# Altium footprint library 专用A.PcbLib: 94 footprints (part 6 of 6)
Each footprint in its own frame and in the unit in brackets; x right, y up, seen from the top. Pads: shape width x height; smd on the part's side, far side on the other; paste and mask are expansions set on the pad; w line width, h text height; cw(c..) or ccw(c..) is an arc to the next point about the centre after c.
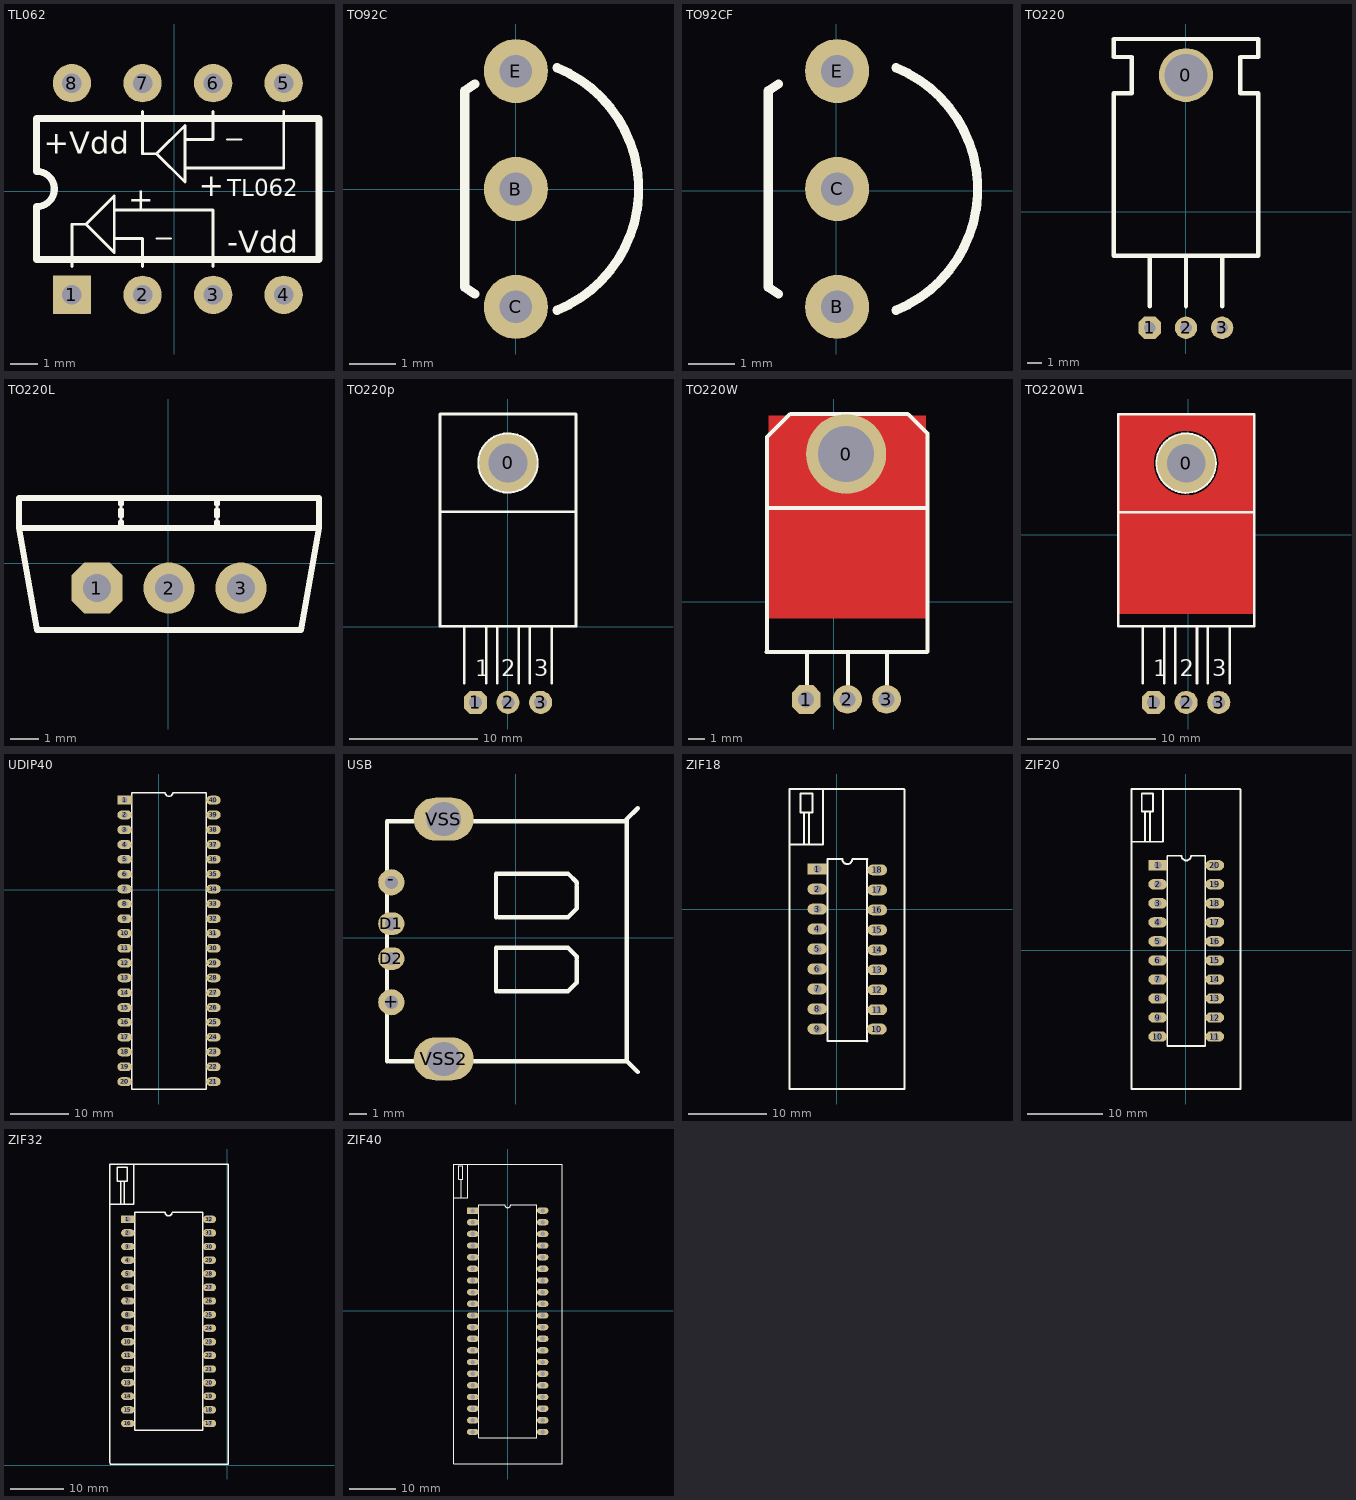
[diagram p5: the footprints below, top view; thin cyan lines are the x and y axes]

## TL062 [mm]
pads (8):
  rect 1.38x1.38 hole 0.7: 1(-3.676,-3.723)
  round 1.38 hole 0.7: 2(-1.136,-3.723) 3(1.404,-3.723) 4(3.944,-3.723) 5(3.944,3.897) 6(1.404,3.897) 7(-1.136,3.897) 8(-3.676,3.897)
TopOverlay:
  lines w0.081: -0.628,-1.691 -0.12,-1.691 ; 1.912,1.865 2.42,1.865
  lines w0.103: -3.676,-2.707 -3.676,-1.183 -3.168,-1.183 ; -2.152,-1.691 -1.136,-1.691 -1.136,-2.707 ; -2.152,-0.675 1.404,-0.675 1.404,-2.707 ; -1.136,2.881 -1.136,1.357 -0.628,1.357 ; 0.388,0.849 3.944,0.849 3.944,2.881 ; 0.388,1.865 1.404,1.865 1.404,2.881 ; -3.168,-1.183 -2.152,-2.199 -2.152,-0.167 -3.168,-1.183 ; -0.628,1.357 0.388,0.341 0.388,2.373 -0.628,1.357
  lines w0.254: -4.946,-2.453 -4.946,-0.548 ccw(c-4.946,0.087) -4.946,0.722 -4.946,2.627 5.214,2.627 5.214,-2.453 -4.946,-2.453
  text "TL062" at 1.912,-0.167 h0.6
  text "+" at 0.896,-0.167 h0.8
  text "+" at -1.644,-0.675 h0.8
  text "+Vdd" at -4.692,1.357 h0.8
  text "-Vdd" at 1.912,-2.199 h0.8

## TO92C [mm]
pads (3):
  round 1.38 hole 0.7: B(0,0) C(0,-2.54) E(0,2.54)
TopOverlay:
  lines w0.2: -0.882,-2.263 -1.101,-2.117 -1.101,2.117 -0.882,2.263 ; 0.885,-2.61 ccw(c-0.169,0) 0.885,2.61

## TO92CF [mm]
pads (3):
  round 1.38 hole 0.7: B(0.02,-2.5) C(0.02,0.04) E(0.02,2.58)
TopOverlay:
  lines w0.2: -1.243,-2.223 -1.462,-2.077 -1.462,2.157 -1.243,2.303 ; 1.286,-2.57 ccw(c0.232,0.04) 1.286,2.65

## TO220 [mil]
pads (4):
  round 149.61 hole 118.11: 0(0.87,378.82)
  oct 62x62 hole 32: 1(-99.13,-321.18)
  round 62 hole 32: 2(0.87,-321.18) 3(100.87,-321.18)
TopOverlay:
  lines w12: -99.13,-261.18 -99.13,-121.18 ; 0.87,-261.18 0.87,-121.18 ; 100.87,-261.18 100.87,-121.18 ; -199.13,-121.18 200.87,-121.18 200.87,328.82 150.87,328.82 150.87,428.82 200.87,428.82 200.87,478.82 -199.13,478.82 -199.13,428.82 -149.13,428.82 -149.13,328.82 -199.13,328.82 -199.13,-121.18

## TO220L [mm]
pads (3):
  oct 1.8x1.8 hole 1: 1(-2.514,-0.876)
  round 1.8 hole 1: 2(0.026,-0.876) 3(2.566,-0.876)
TopOverlay:
  lines w0.2: -1.667,1.241 -1.667,1.452 ; -1.667,1.664 -1.667,1.876 ; -1.667,2.087 -1.667,2.299 ; 1.719,1.241 1.719,1.452 ; 1.719,1.664 1.719,1.876 ; 1.719,2.087 1.719,2.299 ; -5.266,1.241 -5.266,2.299 5.318,2.299 5.318,1.241 ; -5.266,1.241 -4.631,-2.358 4.683,-2.358 5.318,1.241 ; -5.266,1.241 5.318,1.241

## TO220p [mm]
pads (4):
  round 4.5 hole 3: 0(0.026,12.739)
  oct 1.8x1.8 hole 1: 1(-2.514,-5.888)
  round 1.8 hole 1: 2(0.026,-5.888) 3(2.566,-5.888)
TopOverlay:
  circle w0.203: c0.026,12.739 r2.286
  lines w0.2: -5.266,8.929 5.318,8.929 ; -3.361,-4.406 -3.361,0.039 ; -1.667,-4.406 -1.667,0.039 ; -0.821,-4.406 -0.821,0.039 ; 0.873,-4.406 0.873,0.039 ; 1.719,-4.406 1.719,0.039 ; 3.413,-4.406 3.413,0.039 ; -5.266,0.039 -5.266,16.549 5.318,16.549 5.318,0.039 -5.266,0.039
  text "3" at 2.058,-3.856 h1.27
  text "2" at -0.482,-3.856 h1.27
  text "1" at -2.514,-3.856 h1.27

## TO220W [mm]
pads (4):
  round 5 hole 3.5: 0(0.78,9.22)
  oct 1.8x1.8 hole 1: 1(-1.72,-6.12)
  round 1.8 hole 1: 2(0.86,-6.1) 3(3.3,-6.1)
TopLayer:
  rectangle: -4.08,-1.04 5.76,11.64
TopOverlay:
  lines w0.254: -4.2,-3.14 5.84,-3.14 ; -4.18,-3.08 -4.18,9.9 ; -4.18,5.86 5.84,5.86 ; -4.18,9.78 -4.18,10.28 ; -4.14,10.3 -2.76,11.68 ; -2.68,11.72 4.6,11.72 ; -1.66,-5.7 -1.66,-3.16 ; 0.9,-5.78 0.9,-3.2 ; 3.34,-5.72 3.34,-3.2 ; 4.7,11.66 5.86,10.5 5.86,9.72 ; 5.86,-3.12 5.86,9.78
TopPaste:
  rectangle: -4.06,-0.96 5.72,11.54

## TO220W1 [mm]
pads (4):
  round 4.5 hole 3: 0(-0.177,5.576)
  oct 1.8x1.8 hole 1: 1(-2.717,-13.051)
  round 1.8 hole 1: 2(-0.177,-13.051) 3(2.363,-13.051)
TopLayer:
  circle w0.16: c-0.177,5.576 r2.584
  lines w0.16: -5.486,-6.04 5.08,-6.04 ; -5.486,-5.88 5.08,-5.88 ; -5.486,-5.72 5.08,-5.72 ; -5.486,-5.56 5.08,-5.56 ; -5.486,-5.4 5.08,-5.4 ; -5.486,-5.24 5.08,-5.24 ; -5.486,-5.08 5.08,-5.08 ; -5.486,-4.92 5.08,-4.92 ; -5.486,-4.76 5.08,-4.76 ; -5.486,-4.6 5.08,-4.6 ; -5.486,-4.44 5.08,-4.44 ; -5.486,-4.28 5.08,-4.28 ; -5.486,-4.12 5.08,-4.12 ; -5.486,-3.96 5.08,-3.96 ; -5.486,-3.8 5.08,-3.8 ; -5.486,-3.64 5.08,-3.64 ; -5.486,-3.48 5.08,-3.48 ; -5.486,-3.32 5.08,-3.32 ; -5.486,-3.16 5.08,-3.16 ; -5.486,-3 5.08,-3 ; -5.486,-2.84 5.08,-2.84 ; -5.486,-2.68 5.08,-2.68 ; -5.486,-2.52 5.08,-2.52 ; -5.486,-2.36 5.08,-2.36 ; -5.486,-2.2 5.08,-2.2 ; -5.486,-2.04 5.08,-2.04 ; -5.486,-1.88 5.08,-1.88 ; -5.486,-1.72 5.08,-1.72 ; -5.486,-1.56 5.08,-1.56 ; -5.486,-1.4 5.08,-1.4 ; -5.486,-1.24 5.08,-1.24 ; -5.486,-1.08 5.08,-1.08 ; -5.486,-0.92 5.08,-0.92 ; -5.486,-0.76 5.08,-0.76 ; -5.486,-0.6 5.08,-0.6 ; -5.486,-0.44 5.08,-0.44 ; -5.486,-0.28 5.08,-0.28 ; -5.486,-0.12 5.08,-0.12 ; -5.486,0.04 5.08,0.04 ; -5.486,0.2 5.08,0.2 ; -5.486,0.36 5.08,0.36 ; -5.486,0.52 5.08,0.52 ; -5.486,0.68 5.08,0.68 ; -5.486,0.84 5.08,0.84 ; -5.486,1 5.08,1 ; -5.486,1.16 5.08,1.16 ; -5.486,1.32 5.08,1.32 ; -5.486,1.48 5.08,1.48 ; -5.486,1.64 5.08,1.64 ; -5.486,1.8 5.08,1.8 ; -5.486,1.96 5.08,1.96 ; -5.486,2.12 5.08,2.12 ; -5.486,2.28 5.08,2.28 ; -5.486,2.44 5.08,2.44 ; -5.486,2.6 5.08,2.6 ; -5.486,2.76 5.08,2.76 ; -5.486,2.92 5.08,2.92 ; -5.486,3.08 -0.846,3.08 ; -5.486,3.24 -1.282,3.24 ; -5.486,3.4 -1.571,3.4 ; -5.486,3.56 -1.794,3.56 ; -5.486,3.72 -1.975,3.72 ; -5.486,3.88 -2.127,3.88 ; -5.486,4.04 -2.255,4.04 ; -5.486,4.2 -2.364,4.2 ; -5.486,4.36 -2.457,4.36 ; -5.486,4.52 -2.536,4.52 ; -5.486,4.68 -2.601,4.68 ; -5.486,4.84 -2.654,4.84 ; -5.486,5 -2.696,5 ; -5.486,5.16 -2.728,5.16 ; -5.486,5.32 -2.748,5.32 ; -5.486,5.48 -2.759,5.48 ; -5.486,5.64 -2.76,5.64 ; -5.486,5.8 -2.751,5.8 ; -5.486,5.96 -2.732,5.96 ; -5.486,6.12 -2.703,6.12 ; -5.486,6.28 -2.663,6.28 ; -5.486,6.44 -2.612,6.44 ; -5.486,6.6 -2.55,6.6 ; -5.486,6.76 -2.474,6.76 ; -5.486,6.92 -2.384,6.92 ; -5.486,7.08 -2.278,7.08 ; -5.486,7.24 -2.154,7.24 ; -5.486,7.4 -2.007,7.4 ; -5.486,7.56 -1.833,7.56 ; -5.486,7.72 -1.619,7.72 ; -5.486,7.88 -1.347,7.88 ; -5.486,8.04 -0.955,8.04 ; -5.486,8.2 5.08,8.2 ; -5.486,8.36 5.08,8.36 ; -5.486,8.52 5.08,8.52 ; -5.486,8.68 5.08,8.68 ; -5.486,8.84 5.08,8.84 ; -5.486,9 5.08,9 ; -5.486,9.16 5.08,9.16 ; -5.486,9.32 5.08,9.32 ; -5.484,-6.096 -5.484,9.398 ; -5.324,-6.096 -5.324,9.398 ; -5.164,-6.096 -5.164,9.398 ; -5.004,-6.096 -5.004,9.398 ; -4.844,-6.096 -4.844,9.398 ; -4.684,-6.096 -4.684,9.398 ; -4.524,-6.096 -4.524,9.398 ; -4.364,-6.096 -4.364,9.398 ; -4.204,-6.096 -4.204,9.398 ; -4.044,-6.096 -4.044,9.398 ; -3.884,-6.096 -3.884,9.398 ; -3.724,-6.096 -3.724,9.398 ; -3.564,-6.096 -3.564,9.398 ; -3.404,-6.096 -3.404,9.398 ; -3.244,-6.096 -3.244,9.398 ; -3.084,-6.096 -3.084,9.398 ; -2.924,-6.096 -2.924,9.398 ; -2.764,-6.096 -2.764,9.398 ; -2.604,-6.096 -2.604,4.689 ; -2.604,6.463 -2.604,9.398 ; -2.444,-6.096 -2.444,4.336 ; -2.444,6.816 -2.444,9.398 ; -2.284,-6.096 -2.284,4.08 ; -2.284,7.072 -2.284,9.398 ; -2.124,-6.096 -2.124,3.877 ; -2.124,7.275 -2.124,9.398 ; -1.964,-6.096 -1.964,3.709 ; -1.964,7.442 -1.964,9.398 ; -1.804,-6.096 -1.804,3.568 ; -1.804,7.583 -1.804,9.398 ; -1.644,-6.096 -1.644,3.449 ; -1.644,7.703 -1.644,9.398 ; -1.484,-6.096 -1.484,3.347 ; -1.484,7.805 -1.484,9.398 ; -1.324,-6.096 -1.324,3.26 ; -1.324,7.891 -1.324,9.398 ; -1.164,-6.096 -1.164,3.188 ; -1.164,7.964 -1.164,9.398 ; -1.004,-6.096 -1.004,3.128 ; -1.004,8.024 -1.004,9.398 ; -0.844,-6.096 -0.844,3.079 ; -0.844,8.072 -0.844,9.398 ; -0.684,-6.096 -0.684,3.042 ; -0.684,8.11 -0.684,9.398 ; -0.524,-6.096 -0.524,3.015 ; -0.524,8.136 -0.524,9.398 ; -0.364,-6.096 -0.364,2.999 ; -0.364,8.153 -0.364,9.398 ; -0.204,-6.096 -0.204,2.992 ; -0.204,8.16 -0.204,9.398 ; -0.044,-6.096 -0.044,2.995 ; -0.044,8.156 -0.044,9.398 ; 0.116,-6.096 0.116,3.009 ; 0.116,8.143 0.116,9.398 ; 0.276,-6.096 0.276,3.032 ; 0.276,8.12 0.276,9.398 ; 0.436,-6.096 0.436,3.066 ; 0.436,8.086 0.436,9.398 ; 0.492,3.08 5.08,3.08 ; 0.596,-6.096 0.596,3.11 ; 0.596,8.042 0.596,9.398 ; 0.601,8.04 5.08,8.04 ; 0.756,-6.096 0.756,3.166 ; 0.756,7.986 0.756,9.398 ; 0.916,-6.096 0.916,3.234 ; 0.916,7.917 0.916,9.398 ; 0.928,3.24 5.08,3.24 ; 0.993,7.88 5.08,7.88 ; 1.076,-6.096 1.076,3.316 ; 1.076,7.836 1.076,9.398 ; 1.217,3.4 5.08,3.4 ; 1.236,-6.096 1.236,3.412 ; 1.236,7.739 1.236,9.398 ; 1.265,7.72 5.08,7.72 ; 1.396,-6.096 1.396,3.526 ; 1.396,7.626 1.396,9.398 ; 1.439,3.56 5.08,3.56 ; 1.478,7.56 5.08,7.56 ; 1.556,-6.096 1.556,3.659 ; 1.556,7.493 1.556,9.398 ; 1.621,3.72 5.08,3.72 ; 1.653,7.4 5.08,7.4 ; 1.716,-6.096 1.716,3.817 ; 1.716,7.335 1.716,9.398 ; 1.772,3.88 5.08,3.88 ; 1.8,7.24 5.08,7.24 ; 1.876,-6.096 1.876,4.007 ; 1.876,7.145 1.876,9.398 ; 1.901,4.04 5.08,4.04 ; 1.924,7.08 5.08,7.08 ; 2.01,4.2 5.08,4.2 ; 2.03,6.92 5.08,6.92 ; 2.036,-6.096 2.036,4.242 ; 2.036,6.91 2.036,9.398 ; 2.103,4.36 5.08,4.36 ; 2.12,6.76 5.08,6.76 ; 2.181,4.52 5.08,4.52 ; 2.196,-6.096 2.196,4.553 ; 2.196,6.599 2.196,9.398 ; 2.195,6.6 5.08,6.6 ; 2.247,4.68 5.08,4.68 ; 2.258,6.44 5.08,6.44 ; 2.3,4.84 5.08,4.84 ; 2.309,6.28 5.08,6.28 ; 2.342,5 5.08,5 ; 2.349,6.12 5.08,6.12 ; 2.356,-6.096 2.356,5.065 ; 2.356,6.087 2.356,9.398 ; 2.373,5.16 5.08,5.16 ; 2.378,5.96 5.08,5.96 ; 2.394,5.32 5.08,5.32 ; 2.397,5.8 5.08,5.8 ; 2.405,5.48 5.08,5.48 ; 2.406,5.64 5.08,5.64 ; 2.516,-6.096 2.516,9.398 ; 2.676,-6.096 2.676,9.398 ; 2.836,-6.096 2.836,9.398 ; 2.996,-6.096 2.996,9.398 ; 3.156,-6.096 3.156,9.398 ; 3.316,-6.096 3.316,9.398 ; 3.476,-6.096 3.476,9.398 ; 3.636,-6.096 3.636,9.398 ; 3.796,-6.096 3.796,9.398 ; 3.956,-6.096 3.956,9.398 ; 4.116,-6.096 4.116,9.398 ; 4.276,-6.096 4.276,9.398 ; 4.436,-6.096 4.436,9.398 ; 4.596,-6.096 4.596,9.398 ; 4.756,-6.096 4.756,9.398 ; 4.916,-6.096 4.916,9.398 ; 5.076,-6.096 5.076,9.398 ; -5.486,-6.096 -5.486,9.398 5.08,9.398 5.08,-6.096 -5.486,-6.096
TopOverlay:
  circle w0.203: c-0.177,5.576 r2.286
  lines w0.2: -5.469,1.766 5.114,1.766 ; -3.564,-11.569 -3.564,-7.124 ; -1.871,-11.569 -1.871,-7.124 ; -1.024,-11.569 -1.024,-7.124 ; 0.669,-11.569 0.669,-7.124 ; 1.516,-11.569 1.516,-7.124 ; 3.209,-11.569 3.209,-7.124 ; -5.469,-7.124 -5.469,9.386 5.114,9.386 5.114,-7.124 -5.469,-7.124
  text "3" at 1.855,-11.019 h1.27
  text "2" at -0.685,-11.019 h1.27
  text "1" at -2.717,-11.019 h1.27

## UDIP40 [mm]
pads (40):
  rect 2.5x1.5 hole 1: 1(-5.902,15.41)
  oval 2.5x1.5 hole 1: 2(-5.902,12.87) 3(-5.902,10.33) 4(-5.902,7.79) 5(-5.902,5.25) 6(-5.902,2.71) 7(-5.902,0.17) 8(-5.902,-2.37) 9(-5.902,-4.91) 10(-5.902,-7.45) 11(-5.902,-9.99) 12(-5.902,-12.53) 13(-5.902,-15.07) 14(-5.902,-17.61) 15(-5.902,-20.15) 16(-5.902,-22.69) 17(-5.902,-25.23) 18(-5.902,-27.77) 19(-5.902,-30.31) 20(-5.902,-32.85) 21(9.338,-32.85) 22(9.338,-30.31) 23(9.338,-27.77) 24(9.338,-25.23) 25(9.338,-22.69) 26(9.338,-20.15) 27(9.338,-17.61) 28(9.338,-15.07) 29(9.338,-12.53) 30(9.338,-9.99) 31(9.338,-7.45) 32(9.338,-4.91) 33(9.338,-2.37) 34(9.338,0.17) 35(9.338,2.71) 36(9.338,5.25) 37(9.338,7.79) 38(9.338,10.33) 39(9.338,12.87) 40(9.338,15.41)
TopOverlay:
  lines w0.254: -4.632,-34.12 8.068,-34.12 8.068,16.68 2.353,16.68 cw(c1.718,16.68) 1.083,16.68 -4.632,16.68 -4.632,-34.12

## USB [mm]
pads (6):
  round 1.524 hole 0.762: +(-7.255,-3.757) -(-7.255,3.228)
  oval 1.524x1.324 hole 0.762: D1(-7.255,0.815) D2(-7.255,-1.217)
  oval 3.5x2.5 hole 2: VSS(-4.207,6.911) VSS2(-4.207,-7.059)
TopOverlay:
  lines w0.254: -7.509,-7.186 -7.509,6.784 6.461,6.784 ; -7.382,-7.186 6.461,-7.186 ; -1.159,-3.122 -1.159,-0.582 3.032,-0.582 3.54,-1.09 3.54,-1.217 ; -1.159,1.196 -1.159,3.736 3.032,3.736 3.54,3.228 3.54,3.101 ; -1.032,-3.122 3.032,-3.122 3.54,-2.614 3.54,-1.344 ; -1.032,1.196 3.032,1.196 3.54,1.704 3.54,2.974 ; 7.096,-7.821 6.461,-7.186 ; 7.096,7.546 6.461,6.911 6.461,6.784 ; 6.461,-7.186 6.461,6.784

## ZIF18 [mm]
pads (18):
  rect 2.5x1.38 hole 1: 1(-2.473,5.101)
  oval 2.5x1.38 hole 1: 2(-2.473,2.561) 3(-2.473,0.021) 4(-2.473,-2.519) 5(-2.473,-5.059) 6(-2.473,-7.599) 7(-2.473,-10.139) 8(-2.473,-12.679) 9(-2.473,-15.219) 10(5.105,-15.253) 11(5.147,-12.793) 12(5.147,-10.253) 13(5.147,-7.713) 14(5.147,-5.173) 15(5.147,-2.633) 16(5.147,-0.093) 17(5.147,2.447) 18(5.147,4.987)
TopOverlay:
  lines w0.254: -6.007,-22.873 8.534,-22.873 ; -6.007,-22.72 -5.995,-13.135 -5.995,-2.011 -5.995,15.287 -5.725,15.287 8.549,15.287 ; -5.995,8.249 -1.747,8.249 -1.747,15.251 ; -4.159,8.339 -4.159,12.299 ; -3.511,8.249 -3.511,12.299 ; 3.873,-16.815 3.873,6.35 ; 3.877,-16.794 -1.203,-16.794 -1.203,6.371 0.702,6.371 ccw(c1.337,6.371) 1.972,6.371 3.877,6.371 ; 8.585,-22.873 8.603,-12.883 8.603,-1.885 8.603,15.233 ; -4.609,12.317 -4.591,12.299 -3.079,12.299 -3.079,14.675 -3.115,14.711 -4.609,14.711 -4.609,12.317

## ZIF20 [mm]
pads (20):
  rect 2.5x1.38 hole 1: 1(-3.768,11.324)
  oval 2.5x1.38 hole 1: 2(-3.768,8.784) 3(-3.768,6.244) 4(-3.768,3.704) 5(-3.768,1.164) 6(-3.768,-1.376) 7(-3.768,-3.916) 8(-3.768,-6.456) 9(-3.768,-8.996) 10(-3.768,-11.536) 11(3.852,-11.536) 12(3.852,-8.996) 13(3.852,-6.456) 14(3.852,-3.916) 15(3.852,-1.376) 16(3.852,1.164) 17(3.852,3.704) 18(3.852,6.244) 19(3.852,8.784) 20(3.852,11.324)
TopOverlay:
  lines w0.254: -7.29,-18.504 -7.29,-6.912 -7.29,4.212 -7.29,21.51 -7.02,21.51 7.254,21.51 ; -7.29,14.472 -3.042,14.472 -3.042,21.474 ; -7.254,-18.54 3.834,-18.54 6.102,-18.54 7.272,-18.54 ; -5.454,14.562 -5.454,18.522 ; -4.806,14.472 -4.806,18.522 ; 7.308,-18.504 7.308,-6.66 7.308,4.338 7.308,21.456 ; -5.904,18.54 -5.886,18.522 -4.374,18.522 -4.374,20.898 -4.41,20.934 -5.904,20.934 -5.904,18.54 ; -2.498,-12.806 2.582,-12.806 2.582,12.594 0.677,12.594 cw(c0.042,12.594) -0.593,12.594 -2.498,12.594 -2.498,-12.806

## ZIF32 [mm]
pads (32):
  rect 2.5x1.38 hole 1: 1(-18.548,45.86)
  oval 2.5x1.38 hole 1: 2(-18.548,43.32) 3(-18.548,40.78) 4(-18.548,38.24) 5(-18.548,35.7) 6(-18.548,33.16) 7(-18.548,30.62) 8(-18.548,28.08) 9(-18.548,25.54) 10(-18.548,23) 11(-18.548,20.46) 12(-18.548,17.92) 13(-18.548,15.38) 14(-18.548,12.84) 15(-18.548,10.3) 16(-18.548,7.76) 17(-3.308,7.76) 18(-3.308,10.3) 19(-3.308,12.84) 20(-3.308,15.38) 21(-3.308,17.92) 22(-3.308,20.46) 23(-3.308,23) 24(-3.308,25.54) 25(-3.308,28.08) 26(-3.308,30.62) 27(-3.308,33.16) 28(-3.308,35.7) 29(-3.308,38.24) 30(-3.308,40.78) 31(-3.308,43.32) 32(-3.308,45.86)
TopOverlay:
  lines w0.254: -21.87,48.654 -17.514,48.654 -17.46,48.708 -17.46,56.178 ; -21.618,56.178 0.162,56.178 0.162,43.506 0.162,37.89 0.162,0.198 -21.852,0.198 -21.87,0.63 -21.87,36.126 -21.87,43.416 -21.87,55.782 -21.87,56.178 -20.79,56.178 ; -19.872,48.654 -19.872,52.938 ; -19.242,48.654 -19.242,52.938 ; -20.538,52.938 -18.666,52.938 -18.666,55.566 -20.538,55.566 -20.538,52.938 ; -17.278,6.49 -17.278,47.13 -11.563,47.13 ccw(c-10.928,47.13) -10.293,47.13 -4.578,47.13 -4.578,6.49 -17.278,6.49

## ZIF40 [mm]
pads (40):
  rect 2.5x1.38 hole 1: 1(-7.609,21.848)
  oval 2.5x1.38 hole 1: 2(-7.609,19.308) 3(-7.609,16.768) 4(-7.609,14.228) 5(-7.609,11.688) 6(-7.609,9.148) 7(-7.609,6.608) 8(-7.609,4.068) 9(-7.609,1.528) 10(-7.609,-1.012) 11(-7.609,-3.552) 12(-7.609,-6.092) 13(-7.609,-8.632) 14(-7.609,-11.172) 15(-7.609,-13.712) 16(-7.609,-16.252) 17(-7.609,-18.792) 18(-7.609,-21.332) 19(-7.609,-23.872) 20(-7.609,-26.412) 21(7.631,-26.412) 22(7.631,-23.872) 23(7.631,-21.332) 24(7.631,-18.792) 25(7.631,-16.252) 26(7.631,-13.712) 27(7.631,-11.172) 28(7.631,-8.632) 29(7.631,-6.092) 30(7.631,-3.552) 31(7.631,-1.012) 32(7.631,1.528) 33(7.631,4.068) 34(7.631,6.608) 35(7.631,9.148) 36(7.631,11.688) 37(7.631,14.228) 38(7.631,16.768) 39(7.631,19.308) 40(7.631,21.848)
TopOverlay:
  lines w0.254: -11.8,21.848 -11.8,32.008 11.949,32.008 11.949,21.848 11.949,-33.397 -9.006,-33.397 ; -11.8,22.61 -11.8,-33.397 -8.879,-33.397 ; -11.673,24.642 -8.752,24.642 -8.752,26.801 -8.752,32.008 ; -10.149,24.642 -10.149,28.706 ; -9.768,28.833 -9.768,28.706 ; -9.768,28.706 -10.657,28.706 -10.657,31.627 -9.768,31.627 -9.768,28.706 ; -6.339,-27.682 6.361,-27.682 6.361,23.118 0.646,23.118 cw(c0.011,23.118) -0.624,23.118 -6.339,23.118 -6.339,-27.682